# EAGLE library part CAP1203_CAP1203 (library Shield)
Capacitive touch controller
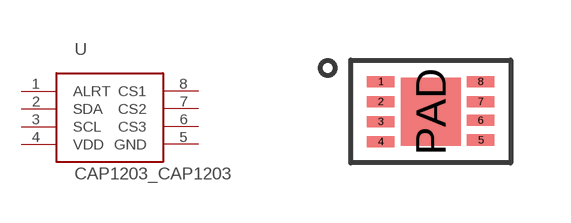
[diagram p1: symbol with the pads of CAP1203_TDFN-8; footprint CAP1203_TDFN-8]

Designator prefix -

## CAP1203_CAP1203  [CAP1203_TDFN-8]
1  ALRT
2  SDA
3  SCL
4  VDD  pwr
5  GND  pwr
6  CS3
7  CS2
8  CS1

## Footprint CAP1203_TDFN-8 (pad centres in mm)
smd 0.69 x 0.28: 1 -1.25,0.75; 2 -1.25,0.25; 3 -1.25,-0.25; 4 -1.252,-0.75; 5 1.25,-0.712; 6 1.25,-0.218; 7 1.25,0.25; 8 1.25,0.75
smd 1.5 x 1.7: PAD 0,0